# Altium schematic symbol library OS102011MS2QN1.Schlib: 1 symbol
Pins are listed as number, name and electrical type; pins without a type are passive.

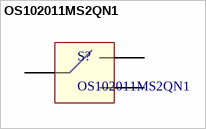
[diagram p0: symbol OS102011MS2QN1]

## OS102011MS2QN1
designator S?
SPDT through hole switch
pins: 1, 2, 3